# Altium footprint library SamacSys.PcbLib: 3 footprints
Each footprint in its own frame and in the unit in brackets; x right, y up, seen from the top. Pads: shape width x height; smd on the part's side, far side on the other; paste and mask are expansions set on the pad; w line width, h text height; cw(c..) or ccw(c..) is an arc to the next point about the centre after c.
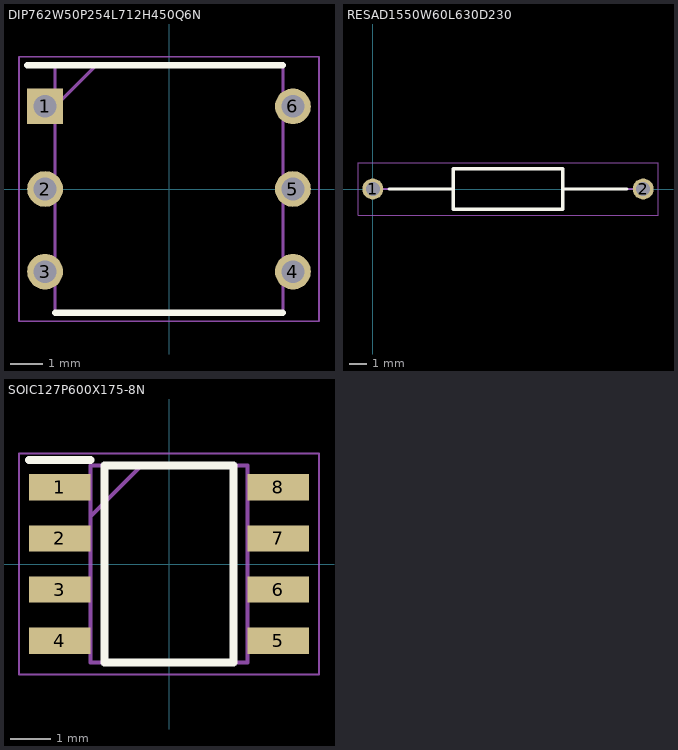
[diagram p0: the footprints below, top view; thin cyan lines are the x and y axes]

## DIP762W50P254L712H450Q6N [mm]
pads (6):
  rect 1.1x1.1 hole 0.7: 1(-3.81,2.54)
  round 1.1 hole 0.7: 2(-3.81,0) 3(-3.81,-2.54) 4(3.81,-2.54) 5(3.81,0) 6(3.81,2.54)
Top Overlay:
  lines w0.2: -4.36,3.81 3.5,3.81 ; -3.5,-3.81 3.5,-3.81
Mechanical 13:
  lines w0.1: -3.5,2.54 -2.23,3.81 ; -3.5,-3.81 -3.5,3.81 3.5,3.81 3.5,-3.81 -3.5,-3.81
Mechanical 15:
  lines w0.05: -4.61,-4.06 -4.61,4.06 4.61,4.06 4.61,-4.06 -4.61,-4.06
3D body "4N35.stp": height 4.5, standoff -3.5, extent -3.935,-3.56 3.935,3.56

## RESAD1550W60L630D230 [mm]
pads (2):
  round 1.2 hole 0.8: 1(0,0) 2(15.5,0)
Top Overlay:
  lines w0.2: 0.95,0 4.6,0 ; 10.9,0 14.55,0 ; 4.6,-1.15 4.6,1.15 10.9,1.15 10.9,-1.15 4.6,-1.15
Mechanical 13:
  lines w0.1: 0,0 4.6,0 ; 10.9,0 15.5,0 ; 4.6,-1.15 4.6,1.15 10.9,1.15 10.9,-1.15 4.6,-1.15
Mechanical 15:
  lines w0.05: -0.85,-1.5 -0.85,1.5 16.35,1.5 16.35,-1.5 -0.85,-1.5
3D body "YR1B1M0CC.stp": height 2.49, standoff -2.5, extent -0.298,-1.248 15.8,1.248

## SOIC127P600X175-8N [mm]
pads (8):
  rect 1.525x0.65 smd: 1(-2.712,1.905) 2(-2.712,0.635) 3(-2.712,-0.635) 4(-2.712,-1.905) 5(2.712,-1.905) 6(2.712,-0.635) 7(2.712,0.635) 8(2.712,1.905)
Top Overlay:
  lines w0.2: -3.475,2.58 -1.95,2.58 ; -1.6,-2.45 1.6,-2.45 1.6,2.45 -1.6,2.45 -1.6,-2.45
Mechanical 13:
  lines w0.1: -1.95,1.18 -0.68,2.45 ; -1.95,-2.45 1.95,-2.45 1.95,2.45 -1.95,2.45 -1.95,-2.45
Mechanical 15:
  lines w0.05: -3.725,-2.75 3.725,-2.75 3.725,2.75 -3.725,2.75 -3.725,-2.75
3D body "NE555DR.stp": height 1.75, standoff 0, extent -3,-2.45 3,2.45